# Altium schematic symbol library SMAZ5V1-13-F.SchLib: 1 symbol
Pins are listed as number, name and electrical type; pins without a type are passive.

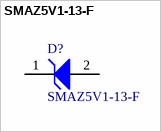
[diagram p0: symbol SMAZ5V1-13-F]

## SMAZ5V1-13-F
designator D?
Zener Diode 5.1 V 1 W ±5% Surface Mount SMA; Manufacturer: Diodes Incorporated; PartDescription: DIODE ZENER 5.1V 1W SMA; Value: 5.1V, 1W; ComponentLink2Description: Datasheet; ComponentLink1URL: http://www.onsemi.com/; PartNumber: SMAZ5V1-13-F; ComponentLink3URL: http://www.onsemi.cn/pub_link/Collateral/017AA.PDF; ComponentLink3Description: Package Specification; ComponentLink2URL: http://www.onsemi.cn/pub_link/Collateral/1N5333B-D.PDF; ComponentLink1Description: Manufacturer URL; Package Type: SMA
footprint SMA
pins: 1 K, 2 A